# EAGLE library part LM3150 (library _RoweTel)
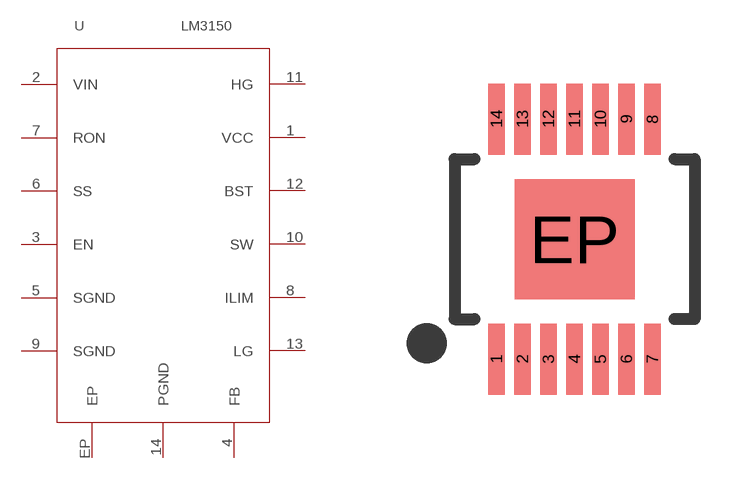
[diagram p24: symbol with the pads of NATIONAL-ETSSOP-14; footprint NATIONAL-ETSSOP-14]

Designator prefix U

## LM3150  [NATIONAL-ETSSOP-14]
1  VCC
2  VIN
3  EN
4  FB
5  SGND
6  SS
7  RON
8  ILIM
9  SGND
10  SW
11  HG
12  BST
13  LG
14  PGND
EP  EP

## Footprint NATIONAL-ETSSOP-14 (pad centres in mm)
smd 0.42 x 1.78: 1 -1.95,-3; 2 -1.3,-3; 3 -0.65,-3; 4 0,-3; 5 0.65,-3; 6 1.3,-3; 7 1.95,-3; 8 1.95,3; 9 1.3,3; 10 0.65,3; 11 0,3; 12 -0.65,3; 13 -1.3,3; 14 -1.95,3
smd 3 x 3: EP 0,0